# Altium footprint library WE-HCM.PcbLib: 23 footprints (part 2 of 2)
Each footprint in its own frame and in the unit in brackets; x right, y up, seen from the top. Pads: shape width x height; smd on the part's side, far side on the other; paste and mask are expansions set on the pad; w line width, h text height; cw(c..) or ccw(c..) is an arc to the next point about the centre after c.
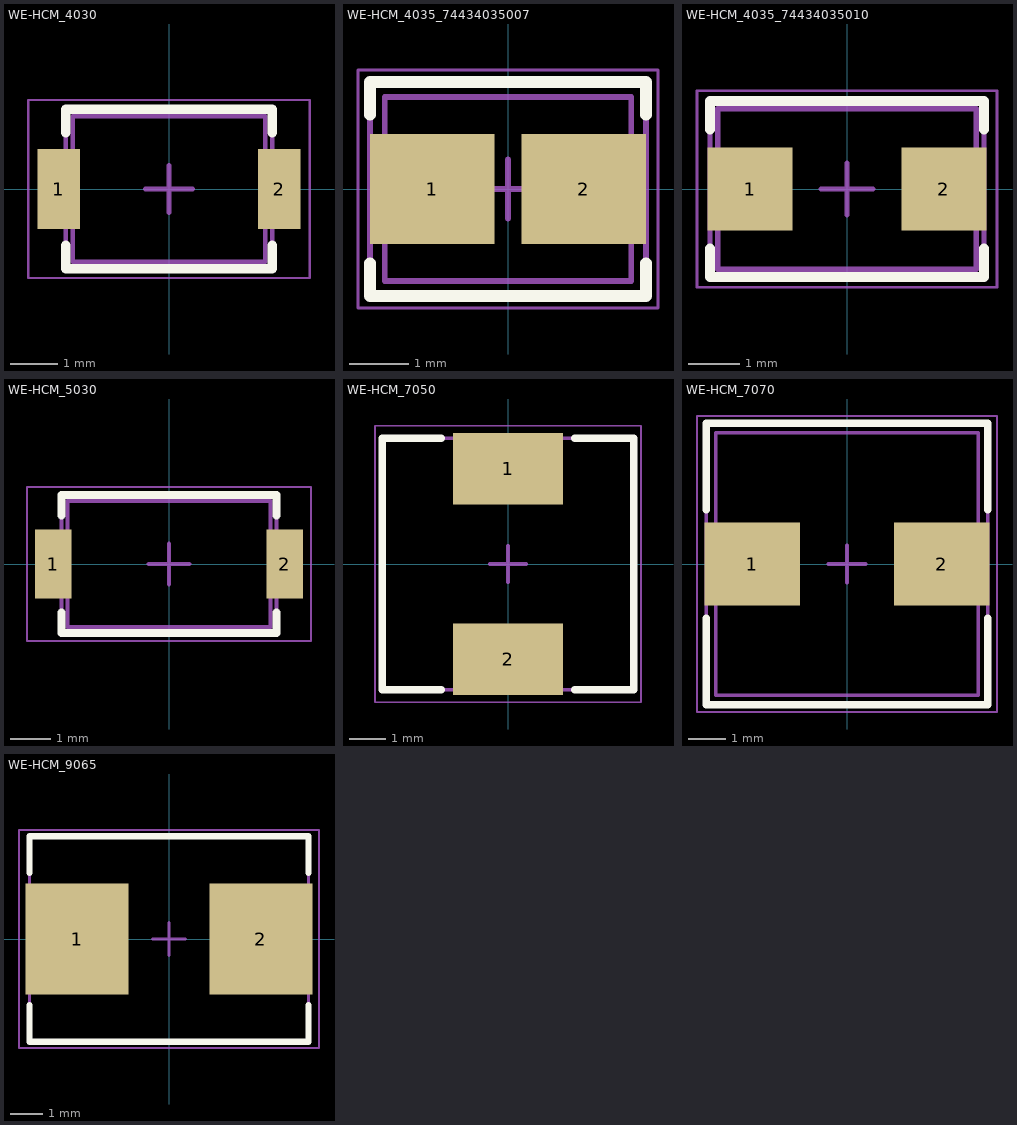
[diagram p1: the footprints below, top view; thin cyan lines are the x and y axes]

## WE-HCM_4030 [mm] "SMT High Current Flat Wire Inductor, body 4.10 x 3.10 mm"
height 3
pads (2):
  rect 0.9x1.7 smd: 1(-2.35,0) 2(2.35,0)
Top Overlay:
  lines w0.2: -2.2,-1.2 -2.2,-1.7 2.2,-1.7 2.2,-1.2 ; -2.2,1.2 -2.2,1.7 2.2,1.7 2.2,1.2
Top Assembly:
  lines w0.1: -2.2,-1.7 -2.2,1.7 2.2,1.7 2.2,-1.7 -2.2,-1.7
Top Designator:
  text ".Designator" at -3.647,-0.357 h1
Top 3D Body:
  lines w0.1: -2.05,-1.55 2.05,-1.55 2.05,1.55 -2.05,1.55 -2.05,-1.55
Top Courtyard:
  lines w0.05: -3,-1.9 -3,1.9 3,1.9 3,-1.9 -3,-1.9
Top Component Center:
  lines w0.1: -0.5,0 0.5,0 ; 0,-0.5 0,0.5
3D body "74434030xxx.stp": height 2.85, standoff 0, extent -2.4,-1.55 2.4,1.55

## WE-HCM_4035_74434035007 [mm] "SMT High Current Flat Wire Inductor, body 4.15 x 3.10 mm"
height 3.5
pads (2):
  rect 2.1x1.85 smd: 1(-1.275,0) 2(1.275,0)
Top Overlay:
  lines w0.2: -2.325,-1.25 -2.325,-1.8 2.325,-1.8 2.325,-1.25 ; -2.325,1.25 -2.325,1.8 2.325,1.8 2.325,1.25
Top Assembly:
  lines w0.1: -2.325,-1.8 -2.325,1.8 2.325,1.8 2.325,-1.8 -2.325,-1.8
Top Designator:
  text ".Designator" at -3.647,-0.357 h1
Top 3D Body:
  lines w0.1: -2.075,-1.55 2.075,-1.55 2.075,1.55 -2.075,1.55 -2.075,-1.55
Top Courtyard:
  lines w0.05: -2.525,-2 2.525,-2 2.525,2 -2.525,2 -2.525,-2
Top Component Center:
  lines w0.1: -0.5,0 0.5,0 ; 0,-0.5 0,0.5
3D body "74434035007.stp": height 2.6, standoff 0, extent -2.075,-1.55 2.075,1.55

## WE-HCM_4035_74434035010 [mm] "SMT High Current Flat Wire Inductor, body 5.00 x 3.10 mm"
height 3.5
pads (2):
  rect 1.65x1.6 smd: 1(-1.875,0) 2(1.875,0)
Top Overlay:
  lines w0.2: -2.65,-1.15 -2.65,-1.7 2.65,-1.7 2.65,-1.15 ; -2.65,1.15 -2.65,1.7 2.65,1.7 2.65,1.15
Top Assembly:
  lines w0.1: -2.65,-1.7 2.65,-1.7 2.65,1.7 -2.65,1.7 -2.65,-1.7
Top Designator:
  text ".Designator" at -3.647,-0.357 h1
Top 3D Body:
  lines w0.1: -2.5,-1.55 -2.5,1.55 2.5,1.55 2.5,-1.55 -2.5,-1.55
Top Courtyard:
  lines w0.05: -2.9,-1.9 -2.9,1.9 2.9,1.9 2.9,-1.9 -2.9,-1.9
Top Component Center:
  lines w0.1: -0.5,0 0.5,0 ; 0,-0.5 0,0.5
3D body "74434035010.stp": height 2.6, standoff 0, extent -2.5,-1.55 2.5,1.55

## WE-HCM_5030 [mm] "SMT High Current Flat Wire Inductor, body 5.00 x 3.10 mm"
height 3
pads (2):
  rect 0.9x1.7 smd: 1(-2.85,0) 2(2.85,0)
Top Overlay:
  lines w0.2: -2.65,-1.2 -2.65,-1.7 2.65,-1.7 2.65,-1.2 ; -2.65,1.2 -2.65,1.7 2.65,1.7 2.65,1.2
Top Assembly:
  lines w0.1: -2.65,-1.7 -2.65,1.7 2.65,1.7 2.65,-1.7 -2.65,-1.7
Top Designator:
  text ".Designator" at -3.647,-0.357 h1
Top 3D Body:
  lines w0.1: -2.5,-1.55 2.5,-1.55 2.5,1.55 -2.5,1.55 -2.5,-1.55
Top Courtyard:
  lines w0.05: -3.5,-1.9 3.5,-1.9 3.5,1.9 -3.5,1.9 -3.5,-1.9
Top Component Center:
  lines w0.1: -0.5,0 0.5,0 ; 0,-0.5 0,0.5
3D body "74435030xxx.stp": height 2.75, standoff 0, extent -2.8,-1.55 2.8,1.55

## WE-HCM_7050 [mm] "SMT High Current Flat Wire Inductor, 2-Leads, body 7x7mm"
height 5
pads (2):
  rect 3.05x2 smd: 1(0,2.65) 2(0,-2.65)
Top Overlay:
  lines w0.2: -1.85,-3.5 -3.5,-3.5 -3.5,3.5 -1.85,3.5 ; 1.85,-3.5 3.5,-3.5 3.5,3.5 1.85,3.5
Top Assembly:
  lines w0.1: -3.5,-3.5 -3.5,3.5 3.5,3.5 3.5,-3.5 -3.5,-3.5
Top Designator:
  text ".Designator" at -3.647,-0.357 h1
Top 3D Body:
  lines w0.1: -3.5,-3.5 3.5,-3.5 3.5,3.5 -3.5,3.5 -3.5,-3.5
Top Courtyard:
  lines w0.05: -3.7,-3.85 -3.7,3.85 3.7,3.85 3.7,-3.85 -3.7,-3.85
Top Component Center:
  lines w0.1: -0.5,0 0.5,0 ; 0,-0.5 0,0.5
3D body "7443020xx.stp": height 4.75, standoff -0.01, extent -3.5,-3.575 3.5,3.575

## WE-HCM_7070 [mm] "SMT High Current Flat Wire Inductor, 2-Leads, body 7x7mm"
height 7
pads (2):
  rect 2.55x2.2 smd: 1(-2.525,0) 2(2.525,0)
Top Overlay:
  lines w0.2: -3.75,-1.45 -3.75,-3.75 3.75,-3.75 3.75,-1.45 ; -3.75,1.45 -3.75,3.75 3.75,3.75 3.75,1.45
Top Assembly:
  lines w0.1: -3.75,-3.75 3.75,-3.75 3.75,3.75 -3.75,3.75 -3.75,-3.75
Top Designator:
  text ".Designator" at -3.647,-0.357 h1
Top 3D Body:
  lines w0.1: -3.5,-3.5 -3.5,3.5 3.5,3.5 3.5,-3.5 -3.5,-3.5
Top Courtyard:
  lines w0.05: -4,-3.95 4,-3.95 4,3.95 -4,3.95 -4,-3.95
Top Component Center:
  lines w0.1: -0.5,0 0.5,0 ; 0,-0.5 0,0.5
3D body "7443070xx.stp": height 7, standoff 0, extent -3.5,-3.5 3.5,3.5

## WE-HCM_9065 [mm] "SMT High Current Flat Wire Inductor, body 8.64x6.35mm"
height 4.5
pads (2):
  rect 3.195x3.43 smd: 1(-2.848,0) 2(2.848,0)
Top Overlay:
  lines w0.2: -4.32,-2.05 -4.32,-3.175 4.32,-3.175 4.32,-2.05 ; -4.32,2.05 -4.32,3.175 4.32,3.175 4.32,2.05
Top Assembly:
  lines w0.1: -4.32,-3.175 4.32,-3.175 4.32,3.175 -4.32,3.175 -4.32,-3.175
Top Designator:
  text ".Designator" at -3.647,-0.357 h1
Top 3D Body:
  lines w0.1: -4.32,-3.175 -4.32,3.175 4.32,3.175 4.32,-3.175 -4.32,-3.175
Top Courtyard:
  lines w0.05: -4.645,-3.375 4.645,-3.375 4.645,3.375 -4.645,3.375 -4.645,-3.375
Top Component Center:
  lines w0.1: -0.5,0 0.5,0 ; 0,-0.5 0,0.5
3D body "7443000xxx.stp": height 4.3, standoff 0, extent -4.32,-3 4.32,3